# Altium schematic symbol library Components.SchLib: 21 symbols
Pins are listed as number, name and electrical type; pins without a type are passive.

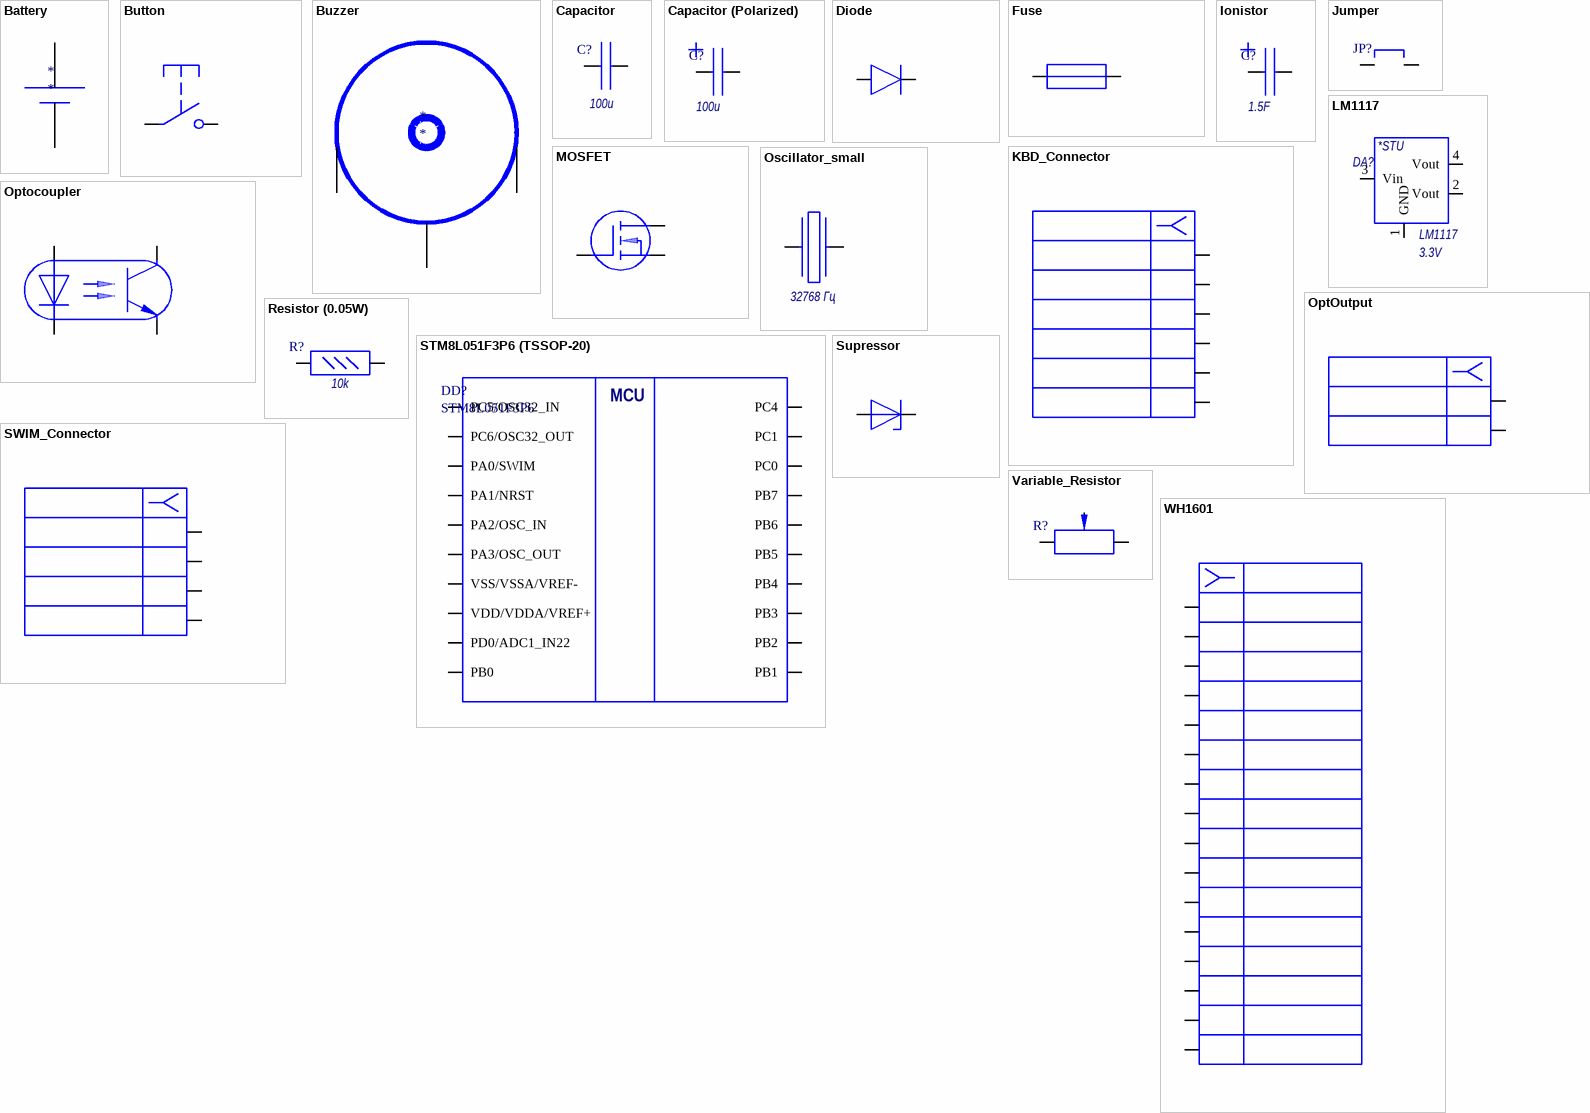
[diagram p0: symbols Battery to WH1601]

## Battery
designator *
footprint Battery
pins: 1, 2

## Button
designator SB?
footprint BUTTON SMD
pins: 1, 2

## Buzzer
designator *
footprint Buzzer
pins: 1, 2, 3

## Capacitor
designator C?  Cap: 100u
footprint CAPACITOR SMD 1206
pins: 1, 2

## Capacitor (Polarized)
designator C?  Cap: 100u
footprint BigCapacitor; pin to pad 1>2 2>1
pins: 1, 2

## Diode
designator D?
footprint SODFL250X110-2N (SODFL, 2-Leads, Body 1,25x2,50mm, IPC Medium Density); pin to pad 1>2 2>1
pins: 1, 2

## Fuse
designator FU?
footprint Resistor SMD 1206 (Chip Resistor, 2-Leads, Body 3,10x1,55mm, IPC Medium Density)
pins: 1, 2

## Ionistor
designator C?  Cap: 1.5F
footprint Ionistor; pin to pad 1>2 2>1
pins: 1, 2

## Jumper
designator JP?
footprint Jumper
pins: 1, 2

## KBD_Connector
designator X?
footprint KBD_Connector; pin to pad 4>6 6>4
pins: 1, 2, 3, 4, 5, 6

## LM1117
designator DA?  type: *STU  Vout: 3.3V  name: LM1117  (hidden comment: *)
footprint SOT230P700X180-4N (SOT223, 4-Leads, Body 6,50x7,00mm (avg), Pitch 2,30mm, IPC Medium Density)
pins: 1 GND, 2 Vout, 3 Vin, 4 Vout

## MOSFET
designator VT?
footprint SOT95P245X110-3N (SOT23, 3-Leads, Body 2,90x2,45mm, Pitch 0,95mm, IPC Medium Density)
pins: 1, 2, 3

## Optocoupler
designator V?
footprint PC817
pins: 1, 2, 3, 4

## OptOutput
designator X?
footprint Jumper
pins: 1, 2

## Oscillator_small
designator ZQ?  value 32768 Гц
footprint KX-26
pins: 1, 2

## Resistor (0.05W)
designator R?  R: 10k
footprint Resistor SMD 1206 (Chip Resistor, 2-Leads, Body 3,10x1,55mm, IPC Medium Density)
pins: 1, 2

## STM8L051F3P6 (TSSOP-20)
designator DD?, comment STM8L051F3P6
footprint TSOP65P640X120-20N (TSOP, 20-Leads, Body 6,50x4,40mm, Pitch 0,65mm, IPC Medium Density)
pins: 1 PC5/OSC32_IN, 2 PC6/OSC32_OUT, 3 PA0/SWIM, 4 PA1/NRST, 5 PA2/OSC_IN, 6 PA3/OSC_OUT, 7 VSS/VSSA/VREF-, 8 VDD/VDDA/VREF+, 9 PD0/ADC1_IN22, 10 PB0, 11 PB1, 12 PB2, 13 PB3, 14 PB4, 15 PB5, 16 PB6, 17 PB7, 18 PC0, 19 PC1, 20 PC4
text: MCU

## Supressor
designator VD?
footprint SMB Supressor (SODFL, 2-Leads, Body 3,63x5,35mm, IPC Medium Density); pin to pad 1>2 2>1
pins: 1, 2

## SWIM_Connector
designator X?
footprint SWIM Connector
pins: 1, 2, 3, 4

## Variable_Resistor
designator R?
footprint Var Resistor
pins: 1, 2, 3

## WH1601
designator X?
footprint WH1601
pins: 1, 2, 3, 4, 5, 6, 7, 8, 9, 10, 11, 12, 13, 14, 15, 16